# EAGLE library part JST-XH-8 (library con-JST-XH)
JST-XH 4-way vertical TH
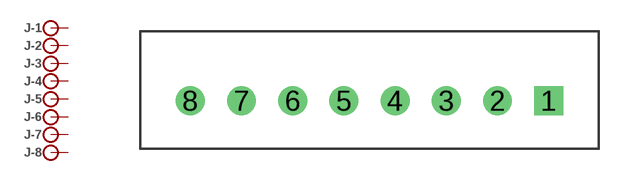
[diagram p1: symbol with the pads of B8B-XH-A; footprint B8B-XH-A]

Designator prefix J; gates -1=PIN -2=PIN -3=PIN -4=PIN -5=PIN -6=PIN -7=PIN -8=PIN

## JST-XH-8 (MF: JST; MPN: B8B-XH-A)  [B8B-XH-A]
1  -1:P
2  -2:P
3  -3:P
4  -4:P
5  -5:P
6  -6:P
7  -7:P
8  -8:P

## Footprint B8B-XH-A (pad centres in mm)
JST-XH (2.5mm) 8-pin through-hole vertical Wire-Board Connector
drill 0.9 square: 1 8.75,0
drill 0.9: 2 6.25,0; 3 3.75,0; 4 1.25,0; 5 -1.25,0; 6 -3.75,0; 7 -6.25,0; 8 -8.75,0